# EAGLE library part DM164 (library IC)
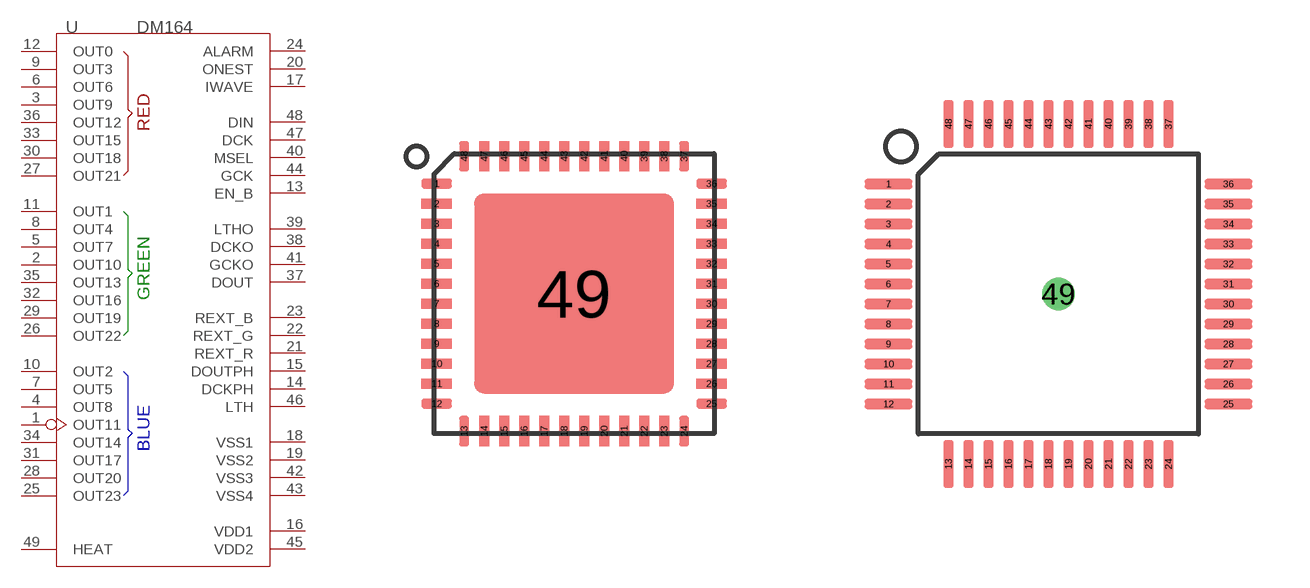
[diagram p159: symbol with the pads of QFN48; footprints QFN48, LQFP48-W/-HEAT]

Designator prefix U

## DM164-QFN48  [QFN48]
1  OUT11
2  OUT10
3  OUT9
4  OUT8
5  OUT7
6  OUT6
7  OUT5
8  OUT4
9  OUT3
10  OUT2
11  OUT1
12  OUT0
13  EN_B
14  DCKPH
15  DOUTPH
16  VDD1
17  IWAVE
18  VSS1
19  VSS2
20  ONEST
21  REXT_R
22  REXT_G
23  REXT_B
24  ALARM
25  OUT23
26  OUT22
27  OUT21
28  OUT20
29  OUT19
30  OUT18
31  OUT17
32  OUT16
33  OUT15
34  OUT14
35  OUT13
36  OUT12
37  DOUT
38  DCKO
39  LTHO
40  MSEL
41  GCKO
42  VSS3
43  VSS4
44  GCK
45  VDD2
46  LTH
47  DCK
48  DIN
49  HEAT

## DM164-LQFP48  [LQFP48-W/-HEAT]
Pads as for QFN48

## Footprint QFN48 (pad centres in mm)
smd 0.762 x 0.254: 1 -3.437,2.75; 2 -3.437,2.25; 3 -3.437,1.75; 4 -3.437,1.25; 5 -3.437,0.75; 6 -3.437,0.25; 7 -3.437,-0.25; 8 -3.437,-0.75; 9 -3.437,-1.25; 10 -3.437,-1.75; 11 -3.437,-2.25; 12 -3.437,-2.75; 25 3.437,-2.75; 26 3.437,-2.25; 27 3.437,-1.75; 28 3.437,-1.25; 29 3.437,-0.75; 30 3.437,-0.25; 31 3.437,0.25; 32 3.437,0.75; 33 3.437,1.25; 34 3.437,1.75; 35 3.437,2.25; 36 3.437,2.75
smd 0.254 x 0.762: 13 -2.75,-3.437; 14 -2.25,-3.437; 15 -1.75,-3.437; 16 -1.25,-3.437; 17 -0.75,-3.437; 18 -0.25,-3.437; 19 0.25,-3.437; 20 0.75,-3.437; 21 1.25,-3.437; 22 1.75,-3.437; 23 2.25,-3.437; 24 2.75,-3.437; 37 2.75,3.437; 38 2.25,3.437; 39 1.75,3.437; 40 1.25,3.437; 41 0.75,3.437; 42 0.25,3.437; 43 -0.25,3.437; 44 -0.75,3.437; 45 -1.25,3.437; 46 -1.75,3.437; 47 -2.25,3.437; 48 -2.75,3.437
smd 5 x 5: 49 0,0

## Footprint LQFP48-W/-HEAT (pad centres in mm)
smd 1.2 x 0.254: 1 -4.25,2.75; 2 -4.25,2.25; 3 -4.25,1.75; 4 -4.25,1.25; 5 -4.25,0.75; 6 -4.25,0.25; 7 -4.25,-0.25; 8 -4.25,-0.75; 9 -4.25,-1.25; 10 -4.25,-1.75; 11 -4.25,-2.25; 12 -4.25,-2.75; 25 4.25,-2.75; 26 4.25,-2.25; 27 4.25,-1.75; 28 4.25,-1.25; 29 4.25,-0.75; 30 4.25,-0.25; 31 4.25,0.25; 32 4.25,0.75; 33 4.25,1.25; 34 4.25,1.75; 35 4.25,2.25; 36 4.25,2.75
smd 0.254 x 1.2: 13 -2.75,-4.25; 14 -2.25,-4.25; 15 -1.75,-4.25; 16 -1.25,-4.25; 17 -0.75,-4.25; 18 -0.25,-4.25; 19 0.25,-4.25; 20 0.75,-4.25; 21 1.25,-4.25; 22 1.75,-4.25; 23 2.25,-4.25; 24 2.75,-4.25; 37 2.75,4.25; 38 2.25,4.25; 39 1.75,4.25; 40 1.25,4.25; 41 0.75,4.25; 42 0.25,4.25; 43 -0.25,4.25; 44 -0.75,4.25; 45 -1.25,4.25; 46 -1.75,4.25; 47 -2.25,4.25; 48 -2.75,4.25
drill 0.305 pad 0.813: 49 0,0